# EAGLE library part 26POS-*MM-? (library con-wurth-board-header)
Wurth Elektronik WR-BHD Male Box Headers
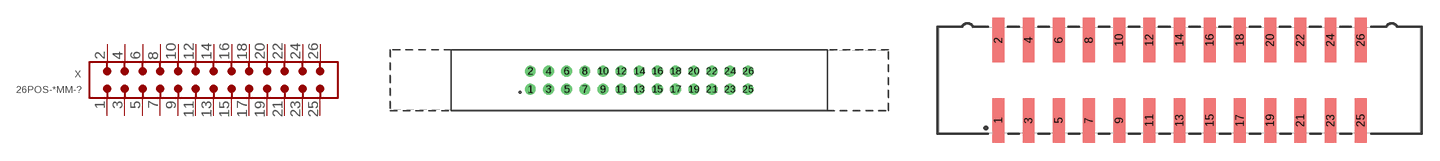
[diagram p14: symbol with the pads of 61202622821; footprints 61202622821, 61202620621]

Designator prefix X

## 26POS-2.54MM-61202622821 (CONTACT-RESISTANCE: 20mOhm; DATASHEET-URL: https://www.we-online.com/redexpert/spec/61202622821?ae; GENDER: Male; IR: 3A; LENGTH: 52.52mm; MOUNT: THT; PACKAGING: Tray; PART-NUMBER: 61202622821; PINS: 26; PITCH: 2.54 mm; TYPE: Straight; VALUE: 61202622821; WORKING-VOLTAGE: 250V(AC))  [61202622821]
1  1  pas
2  2  pas
3  3  pas
4  4  pas
5  5  pas
6  6  pas
7  7  pas
8  8  pas
9  9  pas
10  10  pas
11  11  pas
12  12  pas
13  13  pas
14  14  pas
15  15  pas
16  16  pas
17  17  pas
18  18  pas
19  19  pas
20  20  pas
21  21  pas
22  22  pas
23  23  pas
24  24  pas
25  25  pas
26  26  pas

## 26POS-2.54MM-61202620621 (CONTACT-RESISTANCE: 20mOhm; DATASHEET-URL: https://www.we-online.com/redexpert/spec/61202620621?ae; GENDER: Male; IR: 3A; LENGTH: 40.82mm; MOUNT: SMT; PACKAGING: Tube; PART-NUMBER: 61202620621; PINS: 26; PITCH: 2.54 mm; TYPE: Straight; VALUE: 61202620621; WORKING-VOLTAGE: 250V(AC))  [61202620621]
Pads as for 61202622821

## 26POS-2.54MM-61202622323 (CONTACT-RESISTANCE: 20mOhm; DATASHEET-URL: https://www.we-online.com/redexpert/spec/61202622323?ae; GENDER: Transition; IR: 1A; LENGTH: 38.47mm; MOUNT: THT; PACKAGING: Tray; PART-NUMBER: 61202622323; PINS: 26; PITCH: 2.54 mm; TYPE: Straight; VALUE: 61202622323; WORKING-VOLTAGE: 250V(AC))  [61202622323]
Pads as for 61202622821

## 26POS-2.54MM-612026235121 (CONTACT-RESISTANCE: 20mOhm; DATASHEET-URL: https://www.we-online.com/redexpert/spec/612026235121?ae; GENDER: Male; IR: 3A; LENGTH: 40.62mm; MOUNT: THT; PACKAGING: Tray; PART-NUMBER: 612026235121; PINS: 26; PITCH: 2.54 mm; TYPE: Straight; VALUE: 612026235121; WORKING-VOLTAGE: 250V(AC))  [612026235121]
Pads as for 61202622821

## 26POS-2.54MM-61202621721 (CONTACT-RESISTANCE: 20mOhm; DATASHEET-URL: https://www.we-online.com/redexpert/spec/61202621721?ae; GENDER: Male; IR: 3A; LENGTH: 50.84mm; MOUNT: THT; PACKAGING: Tray; PART-NUMBER: 61202621721; PINS: 26; PITCH: 2.54 mm; TYPE: Angled; VALUE: 61202621721; WORKING-VOLTAGE: 250V(AC))  [61202621721]
Pads as for 61202622821

## 26POS-2.54MM-61232620621 (CONTACT-RESISTANCE: 20mOhm; DATASHEET-URL: https://www.we-online.com/redexpert/spec/61232620621?ae; GENDER: Male; IR: 3A; LENGTH: 40.64mm; MOUNT: SMT; PACKAGING: Tape and Reel with Cap; PART-NUMBER: 61232620621; PINS: 26; PITCH: 2.54 mm; TYPE: Straight; VALUE: 61232620621; WORKING-VOLTAGE: 250V(AC))  [61232620621]
Pads as for 61202622821

## 26POS-2.54MM-61202622021 (CONTACT-RESISTANCE: 20mOhm; DATASHEET-URL: https://www.we-online.com/redexpert/spec/61202622021?ae; GENDER: Male; IR: 3A; LENGTH: 52.52mm; MOUNT: THT; PACKAGING: Tray; PART-NUMBER: 61202622021; PINS: 26; PITCH: 2.54 mm; TYPE: Straight; VALUE: 61202622021; WORKING-VOLTAGE: 250V(AC))  [61202622021]
Pads as for 61202622821

## 26POS-2.54MM-612026235221 (CONTACT-RESISTANCE: 20mOhm; DATASHEET-URL: https://www.we-online.com/redexpert/spec/612026235221?ae; GENDER: Male; IR: 3A; LENGTH: 40.62mm; MOUNT: THT; PACKAGING: Tray; PART-NUMBER: 612026235221; PINS: 26; PITCH: 2.54 mm; TYPE: Angled; VALUE: 612026235221; WORKING-VOLTAGE: 250V(AC))  [612026235221]
Pads as for 61202622821

## 26POS-1.27MM-62702620621 (CONTACT-RESISTANCE: 20mOhm; DATASHEET-URL: https://www.we-online.com/redexpert/spec/62702620621?ae; GENDER: Male; IR: 1A; LENGTH: 22.86mm; MOUNT: SMT; PART-NUMBER: 62702620621; PINS: 26; PITCH: 1.27 mm; TYPE: Straight; VALUE: 62702620621; WORKING-VOLTAGE: 50V(AC))  [62702620621]
Pads as for 61202622821

## 26POS-1.27MM-62702621621 (CONTACT-RESISTANCE: 20mOhm; DATASHEET-URL: https://www.we-online.com/redexpert/spec/62702621621?ae; GENDER: Male; IR: 1A; LENGTH: 22.86mm; MOUNT: THT; PART-NUMBER: 62702621621; PINS: 26; PITCH: 1.27 mm; TYPE: Straight; VALUE: 62702621621; WORKING-VOLTAGE: 50V(AC))  [62702621621]
Pads as for 61202622821

## 26POS-2.00MM-62502621721 (CONTACT-RESISTANCE: 20mOhm; DATASHEET-URL: https://www.we-online.com/redexpert/spec/62502621721?ae; GENDER: Male; IR: 2A; LENGTH: 33.25mm; MOUNT: THT; PACKAGING: Tray; PART-NUMBER: 62502621721; PINS: 26; PITCH: 2.00 mm; TYPE: Angled; VALUE: 62502621721; WORKING-VOLTAGE: 250V(AC))  [62502621721]
Pads as for 61202622821

## 26POS-2.00MM-62502622323 (CONTACT-RESISTANCE: 20mOhm; DATASHEET-URL: https://www.we-online.com/redexpert/spec/62502622323?ae; GENDER: Transition; IR: 1A; LENGTH: 30.1mm; MOUNT: THT; PACKAGING: Tray; PART-NUMBER: 62502622323; PINS: 26; PITCH: 2.00 mm; TYPE: Straight; VALUE: 62502622323; WORKING-VOLTAGE: 250V(AC))  [62502622323]
Pads as for 61202622821

## 26POS-1.27MM-62702621721 (CONTACT-RESISTANCE: 20mOhm; DATASHEET-URL: https://www.we-online.com/redexpert/spec/62702621721?ae; GENDER: Male; IR: 1A; LENGTH: 22.86mm; MOUNT: THT; PART-NUMBER: 62702621721; PINS: 26; PITCH: 1.27 mm; TYPE: Angled; VALUE: 62702621721; WORKING-VOLTAGE: 50V(AC))  [62702621721]
Pads as for 61202622821

## 26POS-2.00MM-62502622121 (CONTACT-RESISTANCE: 20mOhm; DATASHEET-URL: https://www.we-online.com/redexpert/spec/62502622121?ae; GENDER: Male; IR: 2A; LENGTH: 41.7mm; MOUNT: THT; PACKAGING: Tray; PART-NUMBER: 62502622121; PINS: 26; PITCH: 2.00 mm; TYPE: Angled; VALUE: 62502622121; WORKING-VOLTAGE: 250V(AC))  [62502622121]
Pads as for 61202622821

## 26POS-2.00MM-62502621621 (CONTACT-RESISTANCE: 20mOhm; DATASHEET-URL: https://www.we-online.com/redexpert/spec/62502621621?ae; GENDER: Male; IR: 2A; LENGTH: 33.2mm; MOUNT: THT; PACKAGING: Tray; PART-NUMBER: 62502621621; PINS: 26; PITCH: 2.00 mm; TYPE: Straight; VALUE: 62502621621; WORKING-VOLTAGE: 250V(AC))  [62502621621]
Pads as for 61202622821

## 26POS-2.00MM-62502622021 (CONTACT-RESISTANCE: 20mOhm; DATASHEET-URL: https://www.we-online.com/redexpert/spec/62502622021?ae; GENDER: Male; IR: 2A; LENGTH: 41.7mm; MOUNT: THT; PACKAGING: Tray; PART-NUMBER: 62502622021; PINS: 26; PITCH: 2.00 mm; TYPE: Straight; VALUE: 62502622021; WORKING-VOLTAGE: 250V(AC))  [62502622021]
Pads as for 61202622821

## 26POS-2.00MM-62532620621 (CONTACT-RESISTANCE: 20mOhm; DATASHEET-URL: https://www.we-online.com/redexpert/spec/62532620621?ae; GENDER: Male; IR: 2A; LENGTH: 33.25mm; MOUNT: SMT; PACKAGING: Tape and Reel with Cap; PART-NUMBER: 62532620621; PINS: 26; PITCH: 2.00 mm; TYPE: Straight; VALUE: 62532620621; WORKING-VOLTAGE: 250V(AC))  [62532620621]
Pads as for 61202622821

## 26POS-2.54MM-61202622921 (CONTACT-RESISTANCE: 20mOhm; DATASHEET-URL: https://www.we-online.com/redexpert/spec/61202622921?ae; GENDER: Male; IR: 3A; LENGTH: 52.52mm; MOUNT: THT; PACKAGING: Tray; PART-NUMBER: 61202622921; PINS: 26; PITCH: 2.54 mm; TYPE: Angled; VALUE: 61202622921; WORKING-VOLTAGE: 250V(AC))  [61202622921]
Pads as for 61202622821

## 26POS-2.54MM-61202622121 (CONTACT-RESISTANCE: 20mOhm; DATASHEET-URL: https://www.we-online.com/redexpert/spec/61202622121?ae; GENDER: Male; IR: 3A; LENGTH: 52.52mm; MOUNT: THT; PACKAGING: Tray; PART-NUMBER: 61202622121; PINS: 26; PITCH: 2.54 mm; TYPE: Angled; VALUE: 61202622121; WORKING-VOLTAGE: 250V(AC))  [61202622121]
Pads as for 61202622821

## 26POS-2.54MM-61202621621 (CONTACT-RESISTANCE: 20mOhm; DATASHEET-URL: https://www.we-online.com/redexpert/spec/61202621621?ae; GENDER: Male; IR: 3A; LENGTH: 40.68mm; MOUNT: THT; PACKAGING: Tray; PART-NUMBER: 61202621621; PINS: 26; PITCH: 2.54 mm; TYPE: Straight; VALUE: 61202621621; WORKING-VOLTAGE: 250V(AC))  [61202621621]
Pads as for 61202622821

## 26POS-1.27MM-62732620621 (CONTACT-RESISTANCE: 20mOhm; DATASHEET-URL: https://www.we-online.com/redexpert/spec/62732620621?ae; GENDER: Male; IR: 1A; LENGTH: 22.86mm; MOUNT: SMT; PART-NUMBER: 62732620621; PINS: 26; PITCH: 1.27 mm; TYPE: Straight; VALUE: 62732620621; WORKING-VOLTAGE: 50V(AC))  [62732620621]
Pads as for 61202622821

## Footprint 61202622821 (pad centres in mm)
WR-BHD 2.54 mm Male Box Header with long lever, 26 Pins
drill 1.02: 1 -15.24,-1.27; 2 -15.24,1.27; 3 -12.7,-1.27; 4 -12.7,1.27; 5 -10.16,-1.27; 6 -10.16,1.27; 7 -7.62,-1.27; 8 -7.62,1.27; 9 -5.08,-1.27; 10 -5.08,1.27; 11 -2.54,-1.27; 12 -2.54,1.27; 13 0,-1.27; 14 0,1.27; 15 2.54,-1.27; 16 2.54,1.27; 17 5.08,-1.27; 18 5.08,1.27; 19 7.62,-1.27; 20 7.62,1.27; 21 10.16,-1.27; 22 10.16,1.27; 23 12.7,-1.27; 24 12.7,1.27; 25 15.24,-1.27; 26 15.24,1.27

## Footprint 61202620621 (pad centres in mm)
WR-BHD 2.54 mm Male SMT Box Header, 26 pins
smd 1 x 3.75: 1 -15.24,-3.375; 2 -15.24,3.375; 3 -12.7,-3.375; 4 -12.7,3.375; 5 -10.16,-3.375; 6 -10.16,3.375; 7 -7.62,-3.375; 8 -7.62,3.375; 9 -5.08,-3.375; 10 -5.08,3.375; 11 -2.54,-3.375; 12 -2.54,3.375; 13 0,-3.375; 14 0,3.375; 15 2.54,-3.375; 16 2.54,3.375; 17 5.08,-3.375; 18 5.08,3.375; 19 7.62,-3.375; 20 7.62,3.375; 21 10.16,-3.375; 22 10.16,3.375; 23 12.7,-3.375; 24 12.7,3.375; 25 15.24,-3.375; 26 15.24,3.375

## Footprint 61202622323 (pad centres in mm)
WR-BHD 2.54mm Board to Cable Transition Connector, 26 Pins
drill 1.02: 1 -15.24,-1.27; 2 -15.24,1.27; 3 -12.7,-1.27; 4 -12.7,1.27; 5 -10.16,-1.27; 6 -10.16,1.27; 7 -7.62,-1.27; 8 -7.62,1.27; 9 -5.08,-1.27; 10 -5.08,1.27; 11 -2.54,-1.27; 12 -2.54,1.27; 13 0,-1.27; 14 0,1.27; 15 2.54,-1.27; 16 2.54,1.27; 17 5.08,-1.27; 18 5.08,1.27; 19 7.62,-1.27; 20 7.62,1.27; 21 10.16,-1.27; 22 10.16,1.27; 23 12.7,-1.27; 24 12.7,1.27; 25 15.24,-1.27; 26 15.24,1.27

## Footprint 612026235121 (pad centres in mm)
WR-BHD 2.54 mm Male Box Header High Temperature, 26 Pins
drill 1.02: 1 -15.24,-1.27; 2 -15.24,1.27; 3 -12.7,-1.27; 4 -12.7,1.27; 5 -10.16,-1.27; 6 -10.16,1.27; 7 -7.62,-1.27; 8 -7.62,1.27; 9 -5.08,-1.27; 10 -5.08,1.27; 11 -2.54,-1.27; 12 -2.54,1.27; 13 0,-1.27; 14 0,1.27; 15 2.54,-1.27; 16 2.54,1.27; 17 5.08,-1.27; 18 5.08,1.27; 19 7.62,-1.27; 20 7.62,1.27; 21 10.16,-1.27; 22 10.16,1.27; 23 12.7,-1.27; 24 12.7,1.27; 25 15.24,-1.27; 26 15.24,1.27

## Footprint 61202621721 (pad centres in mm)
WR-BHD 2.54 mm Male Angled Box Header,26 Pins
drill 1.1: 1 15.24,8.805; 2 15.24,6.265; 3 12.7,8.805; 4 12.7,6.265; 5 10.16,8.805; 6 10.16,6.265; 7 7.62,8.805; 8 7.62,6.265; 9 5.08,8.805; 10 5.08,6.265; 11 2.54,8.805; 12 2.54,6.265; 13 0,8.805; 14 0,6.265; 15 -2.54,8.805; 16 -2.54,6.265; 17 -5.08,8.805; 18 -5.08,6.265; 19 -7.62,8.805; 20 -7.62,6.265; 21 -10.16,8.805; 22 -10.16,6.265; 23 -12.7,8.805; 24 -12.7,6.265; 25 -15.24,8.805; 26 -15.24,6.265

## Footprint 61232620621 (pad centres in mm)
WR-BHD 2.54 mm Male SMT Box Header 2.54 mm, SMT, 26Pins
smd 1.2 x 4.75: 1 -15.24,-2.875; 2 -15.24,2.875; 3 -12.7,-2.875; 4 -12.7,2.875; 5 -10.16,-2.875; 6 -10.16,2.875; 7 -7.62,-2.875; 8 -7.62,2.875; 9 -5.08,-2.875; 10 -5.08,2.875; 11 -2.54,-2.875; 12 -2.54,2.875; 13 0,-2.875; 14 0,2.875; 15 2.54,-2.875; 16 2.54,2.875; 17 5.08,-2.875; 18 5.08,2.875; 19 7.62,-2.875; 20 7.62,2.875; 21 10.16,-2.875; 22 10.16,2.875; 23 12.7,-2.875; 24 12.7,2.875; 25 15.24,-2.875; 26 15.24,2.875

## Footprint 61202622021 (pad centres in mm)
WR-BHD 2.54 mm Male Box Header with short lever, 26 Pins
drill 1.02: 1 -15.24,-1.27; 2 -15.24,1.27; 3 -12.7,-1.27; 4 -12.7,1.27; 5 -10.16,-1.27; 6 -10.16,1.27; 7 -7.62,-1.27; 8 -7.62,1.27; 9 -5.08,-1.27; 10 -5.08,1.27; 11 -2.54,-1.27; 12 -2.54,1.27; 13 0,-1.27; 14 0,1.27; 15 2.54,-1.27; 16 2.54,1.27; 17 5.08,-1.27; 18 5.08,1.27; 19 7.62,-1.27; 20 7.62,1.27; 21 10.16,-1.27; 22 10.16,1.27; 23 12.7,-1.27; 24 12.7,1.27; 25 15.24,-1.27; 26 15.24,1.27

## Footprint 612026235221 (pad centres in mm)
WR-BHD 2.54 mm Male Angled Box Header High Temperature,26 Pins
drill 1.02: 1 15.24,8.54; 2 15.24,6; 3 12.7,8.54; 4 12.7,6; 5 10.16,8.54; 6 10.16,6; 7 7.62,8.54; 8 7.62,6; 9 5.08,8.54; 10 5.08,6; 11 2.54,8.54; 12 2.54,6; 13 0,8.54; 14 0,6; 15 -2.54,8.54; 16 -2.54,6; 17 -5.08,8.54; 18 -5.08,6; 19 -7.62,8.54; 20 -7.62,6; 21 -10.16,8.54; 22 -10.16,6; 23 -12.7,8.54; 24 -12.7,6; 25 -15.24,8.54; 26 -15.24,6

## Footprint 62702620621 (pad centres in mm)
WR-BHD 1.27 mm Male SMT Box Header Pitch: 1.27mm, 26pins, SMT
smd 0.65 x 2.76: 1 -7.62,-2.02; 2 -7.62,2.02; 3 -6.35,-2.02; 4 -6.35,2.02; 5 -5.08,-2.02; 6 -5.08,2.02; 7 -3.81,-2.02; 8 -3.81,2.02; 9 -2.54,-2.02; 10 -2.54,2.02; 11 -1.27,-2.02; 12 -1.27,2.02; 13 0,-2.02; 14 0,2.02; 15 1.27,-2.02; 16 1.27,2.02; 17 2.54,-2.02; 18 2.54,2.02; 19 3.81,-2.02; 20 3.81,2.02; 21 5.08,-2.02; 22 5.08,2.02; 23 6.35,-2.02; 24 6.35,2.02; 25 7.62,-2.02; 26 7.62,2.02

## Footprint 62702621621 (pad centres in mm)
WR-BHD 1.27mm Male THT Box Header Straight, 26Pins
drill 0.7 pad 1.05: 1 -7.62,-0.635; 2 -7.62,0.635; 3 -6.35,-0.635; 4 -6.35,0.635; 5 -5.08,-0.635; 6 -5.08,0.635; 7 -3.81,-0.635; 8 -3.81,0.635; 9 -2.54,-0.635; 10 -2.54,0.635; 11 -1.27,-0.635; 12 -1.27,0.635; 13 0,-0.635; 14 0,0.635; 15 1.27,-0.635; 16 1.27,0.635; 17 2.54,-0.635; 18 2.54,0.635; 19 3.81,-0.635; 20 3.81,0.635; 21 5.08,-0.635; 22 5.08,0.635; 23 6.35,-0.635; 24 6.35,0.635; 25 7.62,-0.635; 26 7.62,0.635

## Footprint 62502621721 (pad centres in mm)
WR-BHD 2.00 mm Male Angled Box Header,26 pins
drill 0.8: 1 12,5.55; 2 12,3.55; 3 10,5.55; 4 10,3.55; 5 8,5.55; 6 8,3.55; 7 6,5.55; 8 6,3.55; 9 4,5.55; 10 4,3.55; 11 2,5.55; 12 2,3.55; 13 0,5.55; 14 0,3.55; 15 -2,5.55; 16 -2,3.55; 17 -4,5.55; 18 -4,3.55; 19 -6,5.55; 20 -6,3.55; 21 -8,5.55; 22 -8,3.55; 23 -10,5.55; 24 -10,3.55; 25 -12,5.55; 26 -12,3.55

## Footprint 62502622323 (pad centres in mm)
WR-BHD 2.00 mm Board to Cable Transition Connector,26 pins
drill 1: 1 -12,-1; 2 -12,1; 3 -10,-1; 4 -10,1; 5 -8,-1; 6 -8,1; 7 -6,-1; 8 -6,1; 9 -4,-1; 10 -4,1; 11 -2,-1; 12 -2,1; 13 0,-1; 14 0,1; 15 2,-1; 16 2,1; 17 4,-1; 18 4,1; 19 6,-1; 20 6,1; 21 8,-1; 22 8,1; 23 10,-1; 24 10,1; 25 12,-1; 26 12,1

## Footprint 62702621721 (pad centres in mm)
WR-BHD 1,27mm Male THT Box Header Right angle, 26Pins
drill 0.7 pad 1.05: 1 7.62,4.72; 2 7.62,3.45; 3 6.35,4.72; 4 6.35,3.45; 5 5.08,4.72; 6 5.08,3.45; 7 3.81,4.72; 8 3.81,3.45; 9 2.54,4.72; 10 2.54,3.45; 11 1.27,4.72; 12 1.27,3.45; 13 0,4.72; 14 0,3.45; 15 -1.27,4.72; 16 -1.27,3.45; 17 -2.54,4.72; 18 -2.54,3.45; 19 -3.81,4.72; 20 -3.81,3.45; 21 -5.08,4.72; 22 -5.08,3.45; 23 -6.35,4.72; 24 -6.35,3.45; 25 -7.62,4.72; 26 -7.62,3.45

## Footprint 62502622121 (pad centres in mm)
WR-BHD 2.00 mm Male Angled Box Header w. Lever,26 pins
drill 0.8: 1 12,3.4; 2 12,1.4; 3 10,3.4; 4 10,1.4; 5 8,3.4; 6 8,1.4; 7 6,3.4; 8 6,1.4; 9 4,3.4; 10 4,1.4; 11 2,3.4; 12 2,1.4; 13 0,3.4; 14 0,1.4; 15 -2,3.4; 16 -2,1.4; 17 -4,3.4; 18 -4,1.4; 19 -6,3.4; 20 -6,1.4; 21 -8,3.4; 22 -8,1.4; 23 -10,3.4; 24 -10,1.4; 25 -12,3.4; 26 -12,1.4

## Footprint 62502621621 (pad centres in mm)
WR-BHD 2.00 mm Male Box Headerr,26 pins
drill 0.8: 1 -12,-1; 2 -12,1; 3 -10,-1; 4 -10,1; 5 -8,-1; 6 -8,1; 7 -6,-1; 8 -6,1; 9 -4,-1; 10 -4,1; 11 -2,-1; 12 -2,1; 13 0,-1; 14 0,1; 15 2,-1; 16 2,1; 17 4,-1; 18 4,1; 19 6,-1; 20 6,1; 21 8,-1; 22 8,1; 23 10,-1; 24 10,1; 25 12,-1; 26 12,1

## Footprint 62502622021 (pad centres in mm)
WR-BHD 2.00 mm Male Box Header with Lever,26 pins
drill 0.8: 1 -12,-1; 2 -12,1; 3 -10,-1; 4 -10,1; 5 -8,-1; 6 -8,1; 7 -6,-1; 8 -6,1; 9 -4,-1; 10 -4,1; 11 -2,-1; 12 -2,1; 13 0,-1; 14 0,1; 15 2,-1; 16 2,1; 17 4,-1; 18 4,1; 19 6,-1; 20 6,1; 21 8,-1; 22 8,1; 23 10,-1; 24 10,1; 25 12,-1; 26 12,1

## Footprint 62532620621 (pad centres in mm)
WR-BHD 2.00 mm Male SMT Box Header,26 pins
smd 1 x 2.85: 1 -12,-2.425; 2 -12,2.425; 3 -10,-2.425; 4 -10,2.425; 5 -8,-2.425; 6 -8,2.425; 7 -6,-2.425; 8 -6,2.425; 9 -4,-2.425; 10 -4,2.425; 11 -2,-2.425; 12 -2,2.425; 13 0,-2.425; 14 0,2.425; 15 2,-2.425; 16 2,2.425; 17 4,-2.425; 18 4,2.425; 19 6,-2.425; 20 6,2.425; 21 8,-2.425; 22 8,2.425; 23 10,-2.425; 24 10,2.425; 25 12,-2.425; 26 12,2.425

## Footprint 61202622921 (pad centres in mm)
WR-BHD 2.54 mm Male Angled Box Header with long lever, 26 Pins
drill 1.02: 1 15.24,7.36; 2 15.24,4.82; 3 12.7,7.36; 4 12.7,4.82; 5 10.16,7.36; 6 10.16,4.82; 7 7.62,7.36; 8 7.62,4.82; 9 5.08,7.36; 10 5.08,4.82; 11 2.54,7.36; 12 2.54,4.82; 13 0,7.36; 14 0,4.82; 15 -2.54,7.36; 16 -2.54,4.82; 17 -5.08,7.36; 18 -5.08,4.82; 19 -7.62,7.36; 20 -7.62,4.82; 21 -10.16,7.36; 22 -10.16,4.82; 23 -12.7,7.36; 24 -12.7,4.82; 25 -15.24,7.36; 26 -15.24,4.82

## Footprint 61202622121 (pad centres in mm)
WR-BHD 2.54 mm Male Angled Box Header with short lever, 26 Pins
drill 1.02: 1 15.24,7.36; 2 15.24,4.82; 3 12.7,7.36; 4 12.7,4.82; 5 10.16,7.36; 6 10.16,4.82; 7 7.62,7.36; 8 7.62,4.82; 9 5.08,7.36; 10 5.08,4.82; 11 2.54,7.36; 12 2.54,4.82; 13 0,7.36; 14 0,4.82; 15 -2.54,7.36; 16 -2.54,4.82; 17 -5.08,7.36; 18 -5.08,4.82; 19 -7.62,7.36; 20 -7.62,4.82; 21 -10.16,7.36; 22 -10.16,4.82; 23 -12.7,7.36; 24 -12.7,4.82; 25 -15.24,7.36; 26 -15.24,4.82

## Footprint 61202621621 (pad centres in mm)
WR-BHD 2.54 mm Male Box Header, 26 Pins
drill 1.1: 1 -15.24,-1.27; 2 -15.24,1.27; 3 -12.7,-1.27; 4 -12.7,1.27; 5 -10.16,-1.27; 6 -10.16,1.27; 7 -7.62,-1.27; 8 -7.62,1.27; 9 -5.08,-1.27; 10 -5.08,1.27; 11 -2.54,-1.27; 12 -2.54,1.27; 13 0,-1.27; 14 0,1.27; 15 2.54,-1.27; 16 2.54,1.27; 17 5.08,-1.27; 18 5.08,1.27; 19 7.62,-1.27; 20 7.62,1.27; 21 10.16,-1.27; 22 10.16,1.27; 23 12.7,-1.27; 24 12.7,1.27; 25 15.24,-1.27; 26 15.24,1.27

## Footprint 62732620621 (pad centres in mm)
WR-BHD 1.27 mm Male SMT Box Header Pitch: 1.27mm, 26pins, SMT
smd 0.65 x 2.76: 1 -7.62,-2.02; 2 -7.62,2.02; 3 -6.35,-2.02; 4 -6.35,2.02; 5 -5.08,-2.02; 6 -5.08,2.02; 7 -3.81,-2.02; 8 -3.81,2.02; 9 -2.54,-2.02; 10 -2.54,2.02; 11 -1.27,-2.02; 12 -1.27,2.02; 13 0,-2.02; 14 0,2.02; 15 1.27,-2.02; 16 1.27,2.02; 17 2.54,-2.02; 18 2.54,2.02; 19 3.81,-2.02; 20 3.81,2.02; 21 5.08,-2.02; 22 5.08,2.02; 23 6.35,-2.02; 24 6.35,2.02; 25 7.62,-2.02; 26 7.62,2.02